# EAGLE library part DRV8323RH (library HKCV4)
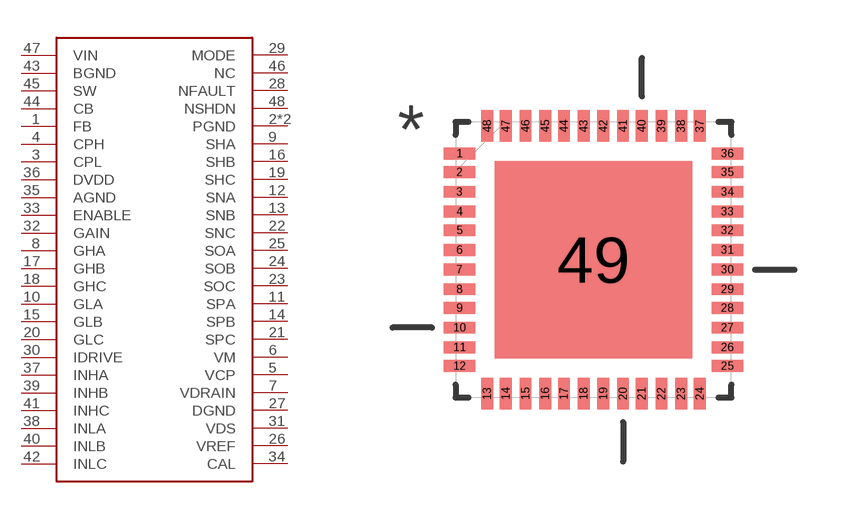
[diagram p0: symbol with the pads of QFN50P700X700X90-49N; footprint QFN50P700X700X90-49N]

Designator prefix -

## DRV8323RH  [QFN50P700X700X90-49N]
1  FB
2  PGND
3  CPL
4  CPH
5  VCP
6  VM
7  VDRAIN
8  GHA
9  SHA
10  GLA
11  SPA
12  SNA
13  SNB
14  SPB
15  GLB
16  SHB
17  GHB
18  GHC
19  SHC
20  GLC
21  SPC
22  SNC
23  SOC
24  SOB
25  SOA
26  VREF
27  DGND
28  NFAULT
29  MODE
30  IDRIVE
31  VDS
32  GAIN
33  ENABLE
34  CAL
35  AGND
36  DVDD
37  INHA
38  INLA
39  INHB
40  INLB
41  INHC
42  INLC
43  BGND
44  CB
45  SW
46  NC
47  VIN
48  NSHDN
49  PGND

## Footprint QFN50P700X700X90-49N (pad centres in mm)
smd 0.813 x 0.305: 1 -3.454,2.743; 2 -3.454,2.261; 3 -3.454,1.753; 4 -3.454,1.245; 5 -3.454,0.762; 6 -3.454,0.254; 7 -3.454,-0.254; 8 -3.454,-0.762; 9 -3.454,-1.245; 10 -3.454,-1.753; 11 -3.454,-2.261; 12 -3.454,-2.743; 25 3.454,-2.743; 26 3.454,-2.261; 27 3.454,-1.753; 28 3.454,-1.245; 29 3.454,-0.762; 30 3.454,-0.254; 31 3.454,0.254; 32 3.454,0.762; 33 3.454,1.245; 34 3.454,1.753; 35 3.454,2.261; 36 3.454,2.743
smd 0.305 x 0.813: 13 -2.743,-3.454; 14 -2.261,-3.454; 15 -1.753,-3.454; 16 -1.245,-3.454; 17 -0.762,-3.454; 18 -0.254,-3.454; 19 0.254,-3.454; 20 0.762,-3.454; 21 1.245,-3.454; 22 1.753,-3.454; 23 2.261,-3.454; 24 2.743,-3.454; 37 2.743,3.454; 38 2.261,3.454; 39 1.753,3.454; 40 1.245,3.454; 41 0.762,3.454; 42 0.254,3.454; 43 -0.254,3.454; 44 -0.762,3.454; 45 -1.245,3.454; 46 -1.753,3.454; 47 -2.261,3.454; 48 -2.743,3.454
smd 5.105 x 5.105: 49 0,0